# Altium integrated library WE-PDF SMD Shielded Power Inductor.IntLib: 25 symbols
Pins are listed as number, name and electrical type; pins without a type are passive.

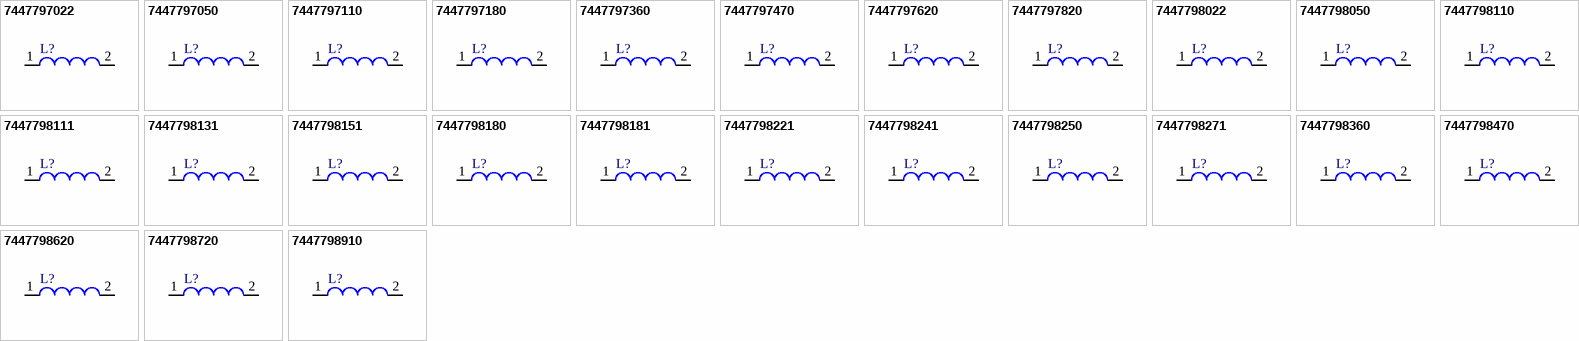
[diagram p0: symbols 7447797022 to 7447798910]

## 7447797022
designator L?
SMD Power Inductor WE-PDF, L = 0.22 µH; PartNumber: 7447797022; Inductance: 0.22 µH; DatasheetVersion: ver 2, Jul-2009; PackageReference: WE-PDF-1045; PackageDescription: SMD Inductor, 2-Leads, Body 10.2 x 10.2 mm; ComponentLink1Description: Manufacturer URL; ComponentLink1URL: http://www.we-online.com; ComponentLink2Description: Datasheet; ComponentLink2URL: http://www.we-online.de/katalog/media/pdf/7447797022.pdf
footprint WE-PDF-1045 (SMD Inductor, 2-Leads, Body 10.2x10.2x4.5 mm)
pins: 1, 2

## 7447797050
designator L?
SMD Power Inductor WE-PDF, L = 0.50 µH; PartNumber: 7447797050; Inductance: 0.50 µH; DatasheetVersion: ver 2, Jul-2009; PackageReference: WE-PDF-1045; PackageDescription: SMD Inductor, 2-Leads, Body 10.2 x 10.2 mm; ComponentLink1Description: Manufacturer URL; ComponentLink1URL: http://www.we-online.com; ComponentLink2Description: Datasheet; ComponentLink2URL: http://www.we-online.de/katalog/media/pdf/7447797050.pdf
footprint WE-PDF-1045 (SMD Inductor, 2-Leads, Body 10.2x10.2x4.5 mm)
pins: 1, 2

## 7447797110
designator L?
SMD Power Inductor WE-PDF, L = 1.10 µH; PartNumber: 7447797110; Inductance: 1.10 µH; DatasheetVersion: ver 2, Jul-2009; PackageReference: WE-PDF-1045; PackageDescription: SMD Inductor, 2-Leads, Body 10.2 x 10.2 mm; ComponentLink1Description: Manufacturer URL; ComponentLink1URL: http://www.we-online.com; ComponentLink2Description: Datasheet; ComponentLink2URL: http://www.we-online.de/katalog/media/pdf/7447797110.pdf
footprint WE-PDF-1045 (SMD Inductor, 2-Leads, Body 10.2x10.2x4.5 mm)
pins: 1, 2

## 7447797180
designator L?
SMD Power Inductor WE-PDF, L = 1.80 µH; PartNumber: 7447797180; Inductance: 1.80 µH; DatasheetVersion: ver 2, Jul-2009; PackageReference: WE-PDF-1045; PackageDescription: SMD Inductor, 2-Leads, Body 10.2 x 10.2 mm; ComponentLink1Description: Manufacturer URL; ComponentLink1URL: http://www.we-online.com; ComponentLink2Description: Datasheet; ComponentLink2URL: http://www.we-online.de/katalog/media/pdf/7447797180.pdf
footprint WE-PDF-1045 (SMD Inductor, 2-Leads, Body 10.2x10.2x4.5 mm)
pins: 1, 2

## 7447797360
designator L?
SMD Power Inductor WE-PDF, L = 3.60 µH; PartNumber: 7447797360; Inductance: 3.60 µH; DatasheetVersion: ver 2, Jul-2009; PackageReference: WE-PDF-1045; PackageDescription: SMD Inductor, 2-Leads, Body 10.2 x 10.2 mm; ComponentLink1Description: Manufacturer URL; ComponentLink1URL: http://www.we-online.com; ComponentLink2Description: Datasheet; ComponentLink2URL: http://www.we-online.de/katalog/media/pdf/7447797360.pdf
footprint WE-PDF-1045 (SMD Inductor, 2-Leads, Body 10.2x10.2x4.5 mm)
pins: 1, 2

## 7447797470
designator L?
SMD Power Inductor WE-PDF, L = 4.70 µH; PartNumber: 7447797470; Inductance: 4.70 µH; DatasheetVersion: ver 2, Jul-2009; PackageReference: WE-PDF-1045; PackageDescription: SMD Inductor, 2-Leads, Body 10.2 x 10.2 mm; ComponentLink1Description: Manufacturer URL; ComponentLink1URL: http://www.we-online.com; ComponentLink2Description: Datasheet; ComponentLink2URL: http://www.we-online.de/katalog/media/pdf/7447797470.pdf
footprint WE-PDF-1045 (SMD Inductor, 2-Leads, Body 10.2x10.2x4.5 mm)
pins: 1, 2

## 7447797620
designator L?
SMD Power Inductor WE-PDF, L = 6.20 µH; PartNumber: 7447797620; Inductance: 6.20 µH; DatasheetVersion: ver 2, Jul-2009; PackageReference: WE-PDF-1045; PackageDescription: SMD Inductor, 2-Leads, Body 10.2 x 10.2 mm; ComponentLink1Description: Manufacturer URL; ComponentLink1URL: http://www.we-online.com; ComponentLink2Description: Datasheet; ComponentLink2URL: http://www.we-online.de/katalog/media/pdf/7447797620.pdf
footprint WE-PDF-1045 (SMD Inductor, 2-Leads, Body 10.2x10.2x4.5 mm)
pins: 1, 2

## 7447797820
designator L?
SMD Power Inductor WE-PDF, L = 8.20 µH; PartNumber: 7447797820; Inductance: 8.20 µH; DatasheetVersion: ver 2, Jul-2009; PackageReference: WE-PDF-1045; PackageDescription: SMD Inductor, 2-Leads, Body 10.2 x 10.2 mm; ComponentLink1Description: Manufacturer URL; ComponentLink1URL: http://www.we-online.com; ComponentLink2Description: Datasheet; ComponentLink2URL: http://www.we-online.de/katalog/media/pdf/7447797820.pdf
footprint WE-PDF-1045 (SMD Inductor, 2-Leads, Body 10.2x10.2x4.5 mm)
pins: 1, 2

## 7447798022
designator L?
SMD Power Inductor WE-PDF, L = 0.22 µH; PartNumber: 7447798022; Inductance: 0.22 µH; DatasheetVersion: ver 1, Dec-2009; PackageReference: WE-PDF-1064; PackageDescription: SMD Inductor, 2-Leads, Body 10.2 x 10.2 mm; ComponentLink1Description: Manufacturer URL; ComponentLink1URL: http://www.we-online.com; ComponentLink2Description: Datasheet; ComponentLink2URL: http://www.we-online.de/katalog/media/pdf/7447798022.pdf
footprint WE-PDF-1064 (SMD Inductor, 2-Leads, Body 10.2x10.2x6.4 mm)
pins: 1, 2

## 7447798050
designator L?
SMD Power Inductor WE-PDF, L = 0.50 µH; PartNumber: 7447798050; Inductance: 0.50 µH; DatasheetVersion: ver 1, Dec-2009; PackageReference: WE-PDF-1064; PackageDescription: SMD Inductor, 2-Leads, Body 10.2 x 10.2 mm; ComponentLink1Description: Manufacturer URL; ComponentLink1URL: http://www.we-online.com; ComponentLink2Description: Datasheet; ComponentLink2URL: http://www.we-online.de/katalog/media/pdf/7447798050.pdf
footprint WE-PDF-1064 (SMD Inductor, 2-Leads, Body 10.2x10.2x6.4 mm)
pins: 1, 2

## 7447798110
designator L?
SMD Power Inductor WE-PDF, L = 1.10 µH; PartNumber: 7447798110; Inductance: 1.10 µH; DatasheetVersion: ver 1, Dec-2009; PackageReference: WE-PDF-1064; PackageDescription: SMD Inductor, 2-Leads, Body 10.2 x 10.2 mm; ComponentLink1Description: Manufacturer URL; ComponentLink1URL: http://www.we-online.com; ComponentLink2Description: Datasheet; ComponentLink2URL: http://www.we-online.de/katalog/media/pdf/7447798110.pdf
footprint WE-PDF-1064 (SMD Inductor, 2-Leads, Body 10.2x10.2x6.4 mm)
pins: 1, 2

## 7447798111
designator L?
SMD Power Inductor WE-PDF, L = 11.0 µH; PartNumber: 7447798111; Inductance: 11.0 µH; DatasheetVersion: ver 1, Dec-2009; PackageReference: WE-PDF-1064; PackageDescription: SMD Inductor, 2-Leads, Body 10.2 x 10.2 mm; ComponentLink1Description: Manufacturer URL; ComponentLink1URL: http://www.we-online.com; ComponentLink2Description: Datasheet; ComponentLink2URL: http://www.we-online.de/katalog/media/pdf/7447798111.pdf
footprint WE-PDF-1064 (SMD Inductor, 2-Leads, Body 10.2x10.2x6.4 mm)
pins: 1, 2

## 7447798131
designator L?
SMD Power Inductor WE-PDF, L = 13.0 µH; PartNumber: 7447798131; Inductance: 13.0 µH; DatasheetVersion: ver 1, Dec-2009; PackageReference: WE-PDF-1064; PackageDescription: SMD Inductor, 2-Leads, Body 10.2 x 10.2 mm; ComponentLink1Description: Manufacturer URL; ComponentLink1URL: http://www.we-online.com; ComponentLink2Description: Datasheet; ComponentLink2URL: http://www.we-online.de/katalog/media/pdf/7447798131.pdf
footprint WE-PDF-1064 (SMD Inductor, 2-Leads, Body 10.2x10.2x6.4 mm)
pins: 1, 2

## 7447798151
designator L?
SMD Power Inductor WE-PDF, L = 15.0 µH; PartNumber: 7447798151; Inductance: 15.0 µH; DatasheetVersion: ver 1, Dec-2009; PackageReference: WE-PDF-1064; PackageDescription: SMD Inductor, 2-Leads, Body 10.2 x 10.2 mm; ComponentLink1Description: Manufacturer URL; ComponentLink1URL: http://www.we-online.com; ComponentLink2Description: Datasheet; ComponentLink2URL: http://www.we-online.de/katalog/media/pdf/7447798151.pdf
footprint WE-PDF-1064 (SMD Inductor, 2-Leads, Body 10.2x10.2x6.4 mm)
pins: 1, 2

## 7447798180
designator L?
SMD Power Inductor WE-PDF, L = 1.80 µH; PartNumber: 7447798180; Inductance: 1.80 µH; DatasheetVersion: ver 1, Dec-2009; PackageReference: WE-PDF-1064; PackageDescription: SMD Inductor, 2-Leads, Body 10.2 x 10.2 mm; ComponentLink1Description: Manufacturer URL; ComponentLink1URL: http://www.we-online.com; ComponentLink2Description: Datasheet; ComponentLink2URL: http://www.we-online.de/katalog/media/pdf/7447798180.pdf
footprint WE-PDF-1064 (SMD Inductor, 2-Leads, Body 10.2x10.2x6.4 mm)
pins: 1, 2

## 7447798181
designator L?
SMD Power Inductor WE-PDF, L = 18.0 µH; PartNumber: 7447798181; Inductance: 18.0 µH; DatasheetVersion: ver 1, Dec-2009; PackageReference: WE-PDF-1064; PackageDescription: SMD Inductor, 2-Leads, Body 10.2 x 10.2 mm; ComponentLink1Description: Manufacturer URL; ComponentLink1URL: http://www.we-online.com; ComponentLink2Description: Datasheet; ComponentLink2URL: http://www.we-online.de/katalog/media/pdf/7447798181.pdf
footprint WE-PDF-1064 (SMD Inductor, 2-Leads, Body 10.2x10.2x6.4 mm)
pins: 1, 2

## 7447798221
designator L?
SMD Power Inductor WE-PDF, L = 22.0 µH; PartNumber: 7447798221; Inductance: 22.0 µH; DatasheetVersion: ver 1, Dec-2009; PackageReference: WE-PDF-1064; PackageDescription: SMD Inductor, 2-Leads, Body 10.2 x 10.2 mm; ComponentLink1Description: Manufacturer URL; ComponentLink1URL: http://www.we-online.com; ComponentLink2Description: Datasheet; ComponentLink2URL: http://www.we-online.de/katalog/media/pdf/7447798221.pdf
footprint WE-PDF-1064 (SMD Inductor, 2-Leads, Body 10.2x10.2x6.4 mm)
pins: 1, 2

## 7447798241
designator L?
SMD Power Inductor WE-PDF, L = 24.0 µH; PartNumber: 7447798241; Inductance: 24.0 µH; DatasheetVersion: ver 1, Dec-2009; PackageReference: WE-PDF-1064; PackageDescription: SMD Inductor, 2-Leads, Body 10.2 x 10.2 mm; ComponentLink1Description: Manufacturer URL; ComponentLink1URL: http://www.we-online.com; ComponentLink2Description: Datasheet; ComponentLink2URL: http://www.we-online.de/katalog/media/pdf/7447798241.pdf
footprint WE-PDF-1064 (SMD Inductor, 2-Leads, Body 10.2x10.2x6.4 mm)
pins: 1, 2

## 7447798250
designator L?
SMD Power Inductor WE-PDF, L = 2.50 µH; PartNumber: 7447798250; Inductance: 2.50 µH; DatasheetVersion: ver 1, Dec-2009; PackageReference: WE-PDF-1064; PackageDescription: SMD Inductor, 2-Leads, Body 10.2 x 10.2 mm; ComponentLink1Description: Manufacturer URL; ComponentLink1URL: http://www.we-online.com; ComponentLink2Description: Datasheet; ComponentLink2URL: http://www.we-online.de/katalog/media/pdf/7447798250.pdf
footprint WE-PDF-1064 (SMD Inductor, 2-Leads, Body 10.2x10.2x6.4 mm)
pins: 1, 2

## 7447798271
designator L?
SMD Power Inductor WE-PDF, L = 27.0 µH; PartNumber: 7447798271; Inductance: 27.0 µH; DatasheetVersion: ver 1, Dec-2009; PackageReference: WE-PDF-1064; PackageDescription: SMD Inductor, 2-Leads, Body 10.2 x 10.2 mm; ComponentLink1Description: Manufacturer URL; ComponentLink1URL: http://www.we-online.com; ComponentLink2Description: Datasheet; ComponentLink2URL: http://www.we-online.de/katalog/media/pdf/7447798271.pdf
footprint WE-PDF-1064 (SMD Inductor, 2-Leads, Body 10.2x10.2x6.4 mm)
pins: 1, 2

## 7447798360
designator L?
SMD Power Inductor WE-PDF, L = 3.60 µH; PartNumber: 7447798360; Inductance: 3.60 µH; DatasheetVersion: ver 1, Dec-2009; PackageReference: WE-PDF-1064; PackageDescription: SMD Inductor, 2-Leads, Body 10.2 x 10.2 mm; ComponentLink1Description: Manufacturer URL; ComponentLink1URL: http://www.we-online.com; ComponentLink2Description: Datasheet; ComponentLink2URL: http://www.we-online.de/katalog/media/pdf/7447798360.pdf
footprint WE-PDF-1064 (SMD Inductor, 2-Leads, Body 10.2x10.2x6.4 mm)
pins: 1, 2

## 7447798470
designator L?
SMD Power Inductor WE-PDF, L = 4.70 µH; PartNumber: 7447798470; Inductance: 4.70 µH; DatasheetVersion: ver 1, Dec-2009; PackageReference: WE-PDF-1064; PackageDescription: SMD Inductor, 2-Leads, Body 10.2 x 10.2 mm; ComponentLink1Description: Manufacturer URL; ComponentLink1URL: http://www.we-online.com; ComponentLink2Description: Datasheet; ComponentLink2URL: http://www.we-online.de/katalog/media/pdf/7447798470.pdf
footprint WE-PDF-1064 (SMD Inductor, 2-Leads, Body 10.2x10.2x6.4 mm)
pins: 1, 2

## 7447798620
designator L?
SMD Power Inductor WE-PDF, L = 6.20 µH; PartNumber: 7447798620; Inductance: 6.20 µH; DatasheetVersion: ver 1, Dec-2009; PackageReference: WE-PDF-1064; PackageDescription: SMD Inductor, 2-Leads, Body 10.2 x 10.2 mm; ComponentLink1Description: Manufacturer URL; ComponentLink1URL: http://www.we-online.com; ComponentLink2Description: Datasheet; ComponentLink2URL: http://www.we-online.de/katalog/media/pdf/7447798620.pdf
footprint WE-PDF-1064 (SMD Inductor, 2-Leads, Body 10.2x10.2x6.4 mm)
pins: 1, 2

## 7447798720
designator L?
SMD Power Inductor WE-PDF, L = 7.20 µH; PartNumber: 7447798720; Inductance: 7.20 µH; DatasheetVersion: ver 1, Dec-2009; PackageReference: WE-PDF-1064; PackageDescription: SMD Inductor, 2-Leads, Body 10.2 x 10.2 mm; ComponentLink1Description: Manufacturer URL; ComponentLink1URL: http://www.we-online.com; ComponentLink2Description: Datasheet; ComponentLink2URL: http://www.we-online.de/katalog/media/pdf/7447798720.pdf
footprint WE-PDF-1064 (SMD Inductor, 2-Leads, Body 10.2x10.2x6.4 mm)
pins: 1, 2

## 7447798910
designator L?
SMD Power Inductor WE-PDF, L = 9.10 µH; PartNumber: 7447798910; Inductance: 9.10 µH; DatasheetVersion: ver 1, Dec-2009; PackageReference: WE-PDF-1064; PackageDescription: SMD Inductor, 2-Leads, Body 10.2 x 10.2 mm; ComponentLink1Description: Manufacturer URL; ComponentLink1URL: http://www.we-online.com; ComponentLink2Description: Datasheet; ComponentLink2URL: http://www.we-online.de/katalog/media/pdf/7447798910.pdf
footprint WE-PDF-1064 (SMD Inductor, 2-Leads, Body 10.2x10.2x6.4 mm)
pins: 1, 2